# Altium footprint library 2PIN_TERM_BLOCK.PcbLib: 1 footprints
Each footprint in its own frame and in the unit in brackets; x right, y up, seen from the top. Pads: shape width x height; smd on the part's side, far side on the other; paste and mask are expansions set on the pad; w line width, h text height; cw(c..) or ccw(c..) is an arc to the next point about the centre after c.
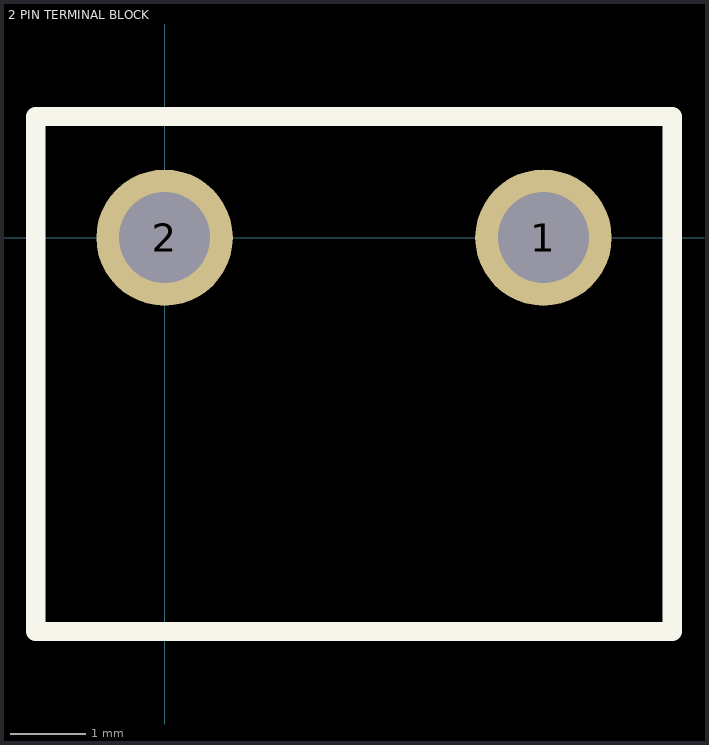
[diagram p0: the footprint, top view; thin cyan lines are the x and y axes]

## 2 PIN TERMINAL BLOCK [mm] "2 PIN TERMINAL BLOCK"
pads (2):
  round 1.8 hole 1.2: 1(5,0) 2(0,0)
Top Overlay:
  lines w0.254: -1.7,-5.2 -1.7,1.6 6.7,1.6 6.7,-5.2 4.6,-5.2 0.4,-5.2 -1.7,-5.2